# Altium footprint library PCB_Connectors.PcbLib: 5 footprints
Each footprint in its own frame and in the unit in brackets; x right, y up, seen from the top. Pads: shape width x height; smd on the part's side, far side on the other; paste and mask are expansions set on the pad; w line width, h text height; cw(c..) or ccw(c..) is an arc to the next point about the centre after c.
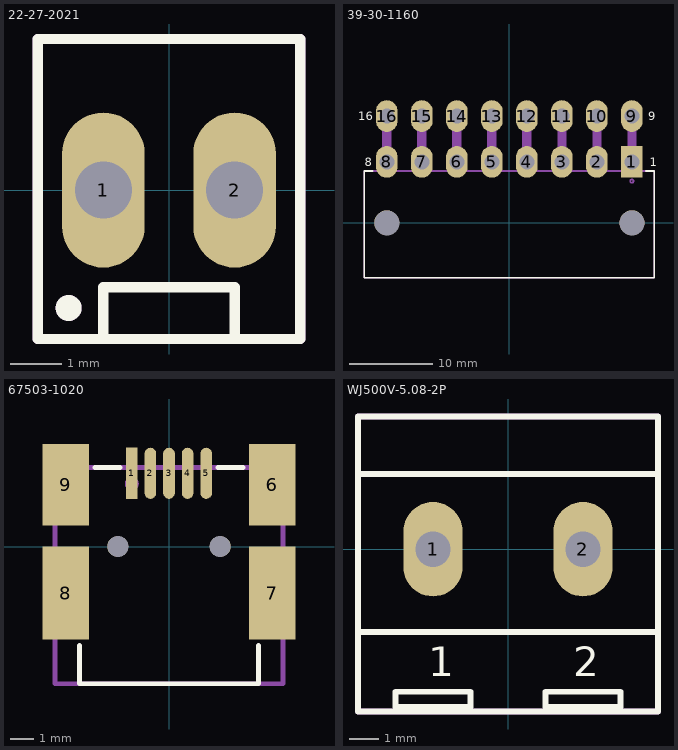
[diagram p0: the footprints below, top view; thin cyan lines are the x and y axes]

## 22-27-2021 [mm]
pads (2):
  oval 1.6x3 hole 1.1: 1(-1.27,0) 2(1.27,0)
Top Overlay:
  circle w0.3: c-1.94,-2.28 r0.1
  lines w0.2: -1.27,-2.88 -1.27,-1.88 1.27,-1.88 1.27,-2.88 ; -2.54,-2.88 -2.54,2.92 2.54,2.92 2.54,-2.88 -2.54,-2.88
Top Assembly:
  circle w0.3: c-1.94,-2.28 r0.1
  lines w0.2: -2.54,-2.88 -2.54,2.92 2.54,2.92 2.54,-2.88 -2.54,-2.88
  text ".Designator" at -3.499,-0.233 h0.7
3D body "22-27-2021.STEP": height 11.7, standoff -3.56, extent -2.54,-2.88 2.54,2.92

## 39-01-2160 [mm]
3D body "39-01-2160.STEP": height 13.85, standoff -0.55, extent -17.4,-10.7 17.4,8.9

## 39-30-1160 [mm]
pads (18):
  rect 2.6x3.8 hole 1.8: 1(14.7,7.3)
  oval 2.6x3.8 hole 1.8: 2(10.5,7.3) 3(6.3,7.3) 4(2.1,7.3) 5(-2.1,7.3) 6(-6.3,7.3) 7(-10.5,7.3) 8(-14.7,7.3) 9(14.7,12.8) 10(10.5,12.8) 11(6.3,12.8) 12(2.1,12.8) 13(-2.1,12.8) 14(-6.3,12.8) 15(-10.5,12.8) 16(-14.7,12.8)
  round 3 hole 3 unplated paste+0 mask+0: ""(-14.7,0) ""(14.7,0)
Top Overlay:
  lines w0.2: -16.4,6.2 -17.4,6.2 -17.4,-6.6 17.4,-6.6 17.4,6.2 16.4,6.2
  text "1" at 16.833,6.8 h1
  text "9" at 16.667,12.3 h1
  text "8" at -17.333,6.8 h1
  text "16" at -18.15,12.3 h1
Top Assembly:
  circle w0.2: c14.7,5 r0.2
  rectangle: 14.15,6.2 15.25,13.5
  rectangle: 9.95,6.2 11.05,13.5
  rectangle: 5.75,6.2 6.85,13.5
  rectangle: 1.55,6.2 2.65,13.5
  rectangle: -2.65,6.2 -1.55,13.5
  rectangle: -6.85,6.2 -5.75,13.5
  rectangle: -11.05,6.2 -9.95,13.5
  rectangle: -15.25,6.2 -14.15,13.5
  lines w0.2: -17.4,-6.6 -17.4,6.2 17.4,6.2 17.4,-6.6 -17.4,-6.6
  text ".Designator" at -3.499,-0.233 h0.7
3D body "39-30-1160.STEP": height 11.4, standoff -3.6, extent -17.4,-6.6 17.797,13.335

## 67503-1020 [mm]
pads (11):
  rect 0.5x2.2 smd: 1(-1.6,3.15)
  oval 0.5x2.2 smd: 2(-0.8,3.15) 3(0,3.15) 4(0.8,3.15) 5(1.6,3.15)
  rect 2x3.5 smd: 6(4.45,2.65) 9(-4.45,2.65)
  rect 2x4 smd: 7(4.45,-2) 8(-4.45,-2)
  round 0.9 hole 0.9 unplated paste+0 mask+0: ""(-2.2,0) ""(2.2,0)
Top Overlay:
  lines w0.2: -3.85,-4.25 -3.85,-5.9 3.85,-5.9 3.85,-4.25 ; -3.2,3.4 -2.1,3.4 ; 2.1,3.4 3.2,3.4
Top Assembly:
  circle w0.2: c-1.6,2.7 r0.2
  lines w0.2: -4.9,-5.9 4.9,-5.9 4.9,3.4 -4.9,3.4 -4.9,-5.9
  text ".Designator" at -3.499,-0.233 h0.7
3D body "67503-1020.STEP": height 3.96, standoff -0.99, extent -4.95,-5.9 4.95,3.1

## WJ500V-5.08-2P [mm]
pads (2):
  oval 2x3.2 hole 1.2: 1(-2.54,0) 2(2.54,0)
Top Overlay:
  lines w0.2: -5.08,-2.8 5.08,-2.8 ; -5.08,2.544 5.08,2.544 ; -5.08,-5.5 -5.08,4.5 5.08,4.5 5.08,-5.5 -5.08,-5.5 ; -3.81,-5.334 -1.27,-5.334 -1.27,-4.826 -3.81,-4.826 -3.81,-5.334 ; 1.27,-5.334 3.81,-5.334 3.81,-4.826 1.27,-4.826 1.27,-5.334
  text "2" at 2.207,-4.31 h1
  text "1" at -2.707,-4.31 h1
Top Assembly:
  lines w0.2: -5.08,-5.5 -5.08,4.5 5.08,4.5 5.08,-5.5 -5.08,-5.5
  text ".Designator" at -3.499,-0.233 h0.7
3D body "TBLOCK_2POS.STEP": height 15, standoff -3.5, extent -5.65,-4.8 5.08,4.7